# Altium schematic symbol library Connectors.SchLib: 15 symbols
Pins are listed as number, name and electrical type; pins without a type are passive.

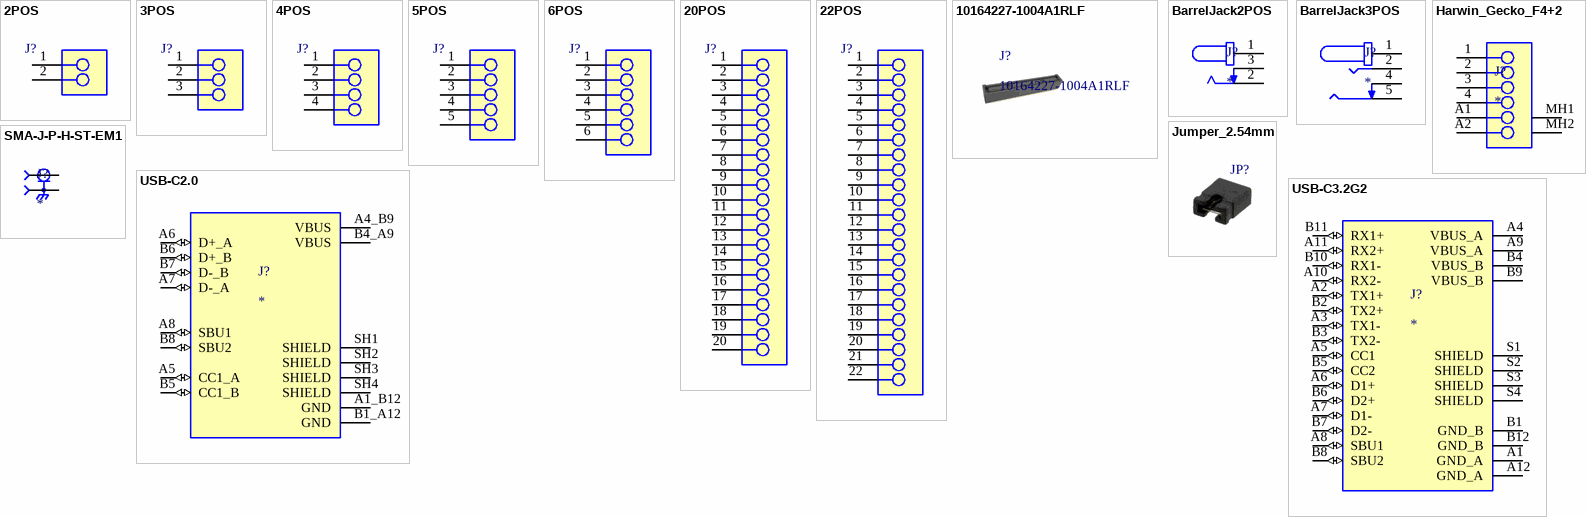
[diagram p0: symbols 2POS to USB-C3.2G2]

## 2POS
designator J?
footprint CONN03_533750310_MOL
pins: 1, 2

## 3POS
designator J?
footprint CONN03_533750310_MOL
pins: 1, 2, 3

## 4POS
designator J?
pins: 1, 2, 3, 4

## 5POS
designator J?
footprint CONN03_533750310_MOL
pins: 1, 2, 3, 4, 5

## 6POS
designator J?
footprint CONN03_533750310_MOL
pins: 1, 2, 3, 4, 5, 6

## 20POS
designator J?
pins: 1, 2, 3, 4, 5, 6, 7, 8, 9, 10, 11, 12, 13, 14, 15, 16, 17, 18, 19, 20

## 22POS
designator J?
pins: 1, 2, 3, 4, 5, 6, 7, 8, 9, 10, 11, 12, 13, 14, 15, 16, 17, 18, 19, 20, 21, 22

## 10164227-1004A1RLF
designator J?
FOR RPI CM5 MOUTING

## BarrelJack2POS
designator J?
2.0 x 6.5 mm, 2.5 A, Horizontal, Through Hole, Dc Power Jack Connector; MF: Same Sky; MP: PJ-002A; SnapEDA_Link: https://www.snapeda.com/parts/PJ-002A/Same+Sky/view-part/?ref=snap; Package: None; Value: *; Check_prices: https://www.snapeda.com/parts/PJ-002A/Same+Sky/view-part/?ref=eda
footprint CUI_PJ-002A
pins: 1, 2, 3

## BarrelJack3POS
designator J?
pins: 1, 2, 4, 5

## Harwin_Gecko_F4+2
designator J?
Harwin Gecko-MT 4+2 Female Vertical; Manufacturer_Part_Number: G125-FV104F3-02AB000P; Datasheet Link: https://cdn.harwin.com/pdfs/G125-FV1XXF3-XXAB000P.pdf; Height: 5.45mm; Manufacturer_Name: Harwin; Mouser Part Number: 855-G125FV14F32AB00P; Mouser Price/Stock: https://www.mouser.co.uk/ProductDetail/Harwin/G125-FV104F3-02AB000P?qs=Y0Uzf4wQF3kGTUV3T9QD6A%3D%3D
footprint G125FV104F302AB000P
pins: 1, 2, 3, 4, A1, A2, MH1, MH2

## Jumper_2.54mm
designator JP?  (value not drawn)
Supplier 1: DigiKey; Supplier Part Number 1: S9337-ND

## SMA-J-P-H-ST-EM1
designator J?
MF: Samtec; MP: SMA-J-P-H-ST-EM1; Package: None; Price: None; Value: *; Availability: Unavailable
footprint SAMTEC_SMA-J-P-H-ST-EM1
pins: 1, 2_1 2, 2_2 2, 3_1 2, 3_2 2

## USB-C2.0
designator J?
USB2.0, Type C, Top mount, CH 1.68mm, Dual Row SMT; MP: 12402012E212A; MF: Amphenol ICC (Commercial Products); Price: None; Package: None; Availability: In Stock; SnapEDA_Link: https://www.snapeda.com/parts/12402012E212A/Amphenol/view-part/?ref=snap; Value: *; Check_prices: https://www.snapeda.com/parts/12402012E212A/Amphenol/view-part/?ref=eda; Purchase-URL: https://pricing.snapeda.com/search/part/12402012E212A/?ref=eda
pins: A1_B12 GND (power), A4_B9 VBUS (power), A5 CC1_A (io), A6 D+_A (io), A7 D-_A (io), A8 SBU1 (io), B1_A12 GND (power), B4_A9 VBUS (power), B5 CC1_B (io), B6 D+_B (io), B7 D-_B (io), B8 SBU2 (io), SH1 SHIELD, SH2 SHIELD, SH3 SHIELD, SH4 SHIELD

## USB-C3.2G2
designator J?
USB3.2 GEN2, Type C, Top mount, CH 1.58mm, Dual Row SMT; MF: Amphenol ICC; MP: 12401832E402A; SnapEDA_Link: https://www.snapeda.com/parts/12401832E402A/Amphenol/view-part/?ref=snap; Package: None; Value: *; Check_prices: https://www.snapeda.com/parts/12401832E402A/Amphenol/view-part/?ref=eda
pins: A1 GND_A (power), A2 TX1+ (io), A3 TX1- (io), A4 VBUS_A (power), A5 CC1 (io), A6 D1+ (io), A7 D1- (io), A8 SBU1 (io), A9 VBUS_A (power), A10 RX2- (io), A11 RX2+ (io), A12 GND_A (power), B1 GND_B (power), B2 TX2+ (io), B3 TX2- (io), B4 VBUS_B (power), B5 CC2 (io), B6 D2+ (io), B7 D2- (io), B8 SBU2 (io), B9 VBUS_B (power), B10 RX1- (io), B11 RX1+ (io), B12 GND_B (power), S1 SHIELD, S2 SHIELD, S3 SHIELD, S4 SHIELD